# EAGLE library part DRV2700 (library pchvd)
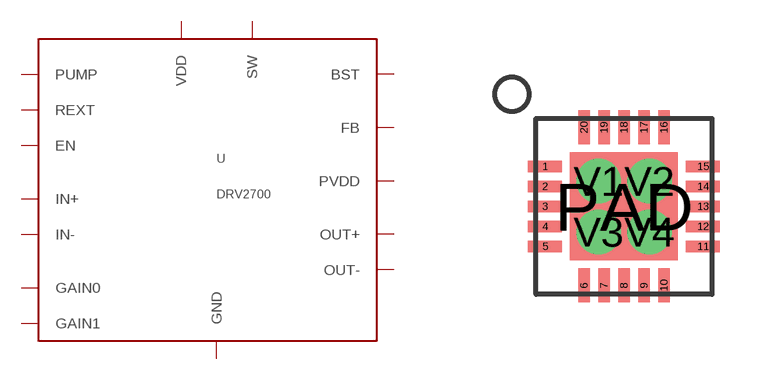
[diagram p0: symbol with the pads of S-PVQFN-N20; footprint S-PVQFN-N20]

Designator prefix U

## DRV2700  [S-PVQFN-N20]
1  PUMP
2  VDD
3  FB
4  GND
5  GND
6  GND
7  SW
8  SW
10  BST
11  BST
12  PVDD
13  OUT+
14  OUT-
15  REXT
16  IN-
17  IN+
18  GAIN0
19  GAIN1
20  EN
PAD  GND
V1  GND
V2  GND
V3  GND
V4  GND

## Footprint S-PVQFN-N20 (pad centres in mm)
QFN-20 package, from TI; eg, http://www.ti.com/lit/ds/symlink/drv2700.pdf
smd 0.85 x 0.28: 1 -1.975,1; 2 -1.975,0.5; 3 -1.975,0; 4 -1.975,-0.5; 5 -1.975,-1; 11 1.975,-1; 12 1.975,-0.5; 13 1.975,0; 14 1.975,0.5; 15 1.975,1
smd 0.28 x 0.85: 6 -1,-1.975; 7 -0.5,-1.975; 8 0,-1.975; 9 0.5,-1.975; 10 1,-1.975; 16 1,1.975; 17 0.5,1.975; 18 0,1.975; 19 -0.5,1.975; 20 -1,1.975
smd 2.7 x 2.7: PAD 0,0
drill 0.6: V1 -0.635,0.635; V2 0.635,0.635; V3 -0.635,-0.635; V4 0.635,-0.635